# EAGLE library part TDS08 (library CYCFI_switch)
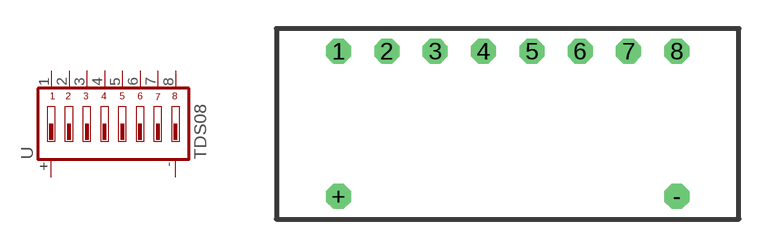
[diagram p3: symbol with the pads of SPDT-08; footprint SPDT-08]

Designator prefix -

## TDS08  [SPDT-08]
1  1  pas
2  2  pas
3  3  pas
4  4  pas
5  5  pas
6  6  pas
7  7  pas
8  8  pas
+  +  pas
-  -  pas

## Footprint SPDT-08 (pad centres in mm)
drill 0.8 octagon: 1 -8.89,3.81; 2 -6.35,3.81; 3 -3.81,3.81; 4 -1.27,3.81; 5 1.27,3.81; 6 3.81,3.81; 7 6.35,3.81; 8 8.89,3.81; + -8.89,-3.81; - 8.89,-3.81